# EAGLE library part 2XTRIODE (library Tubes111)
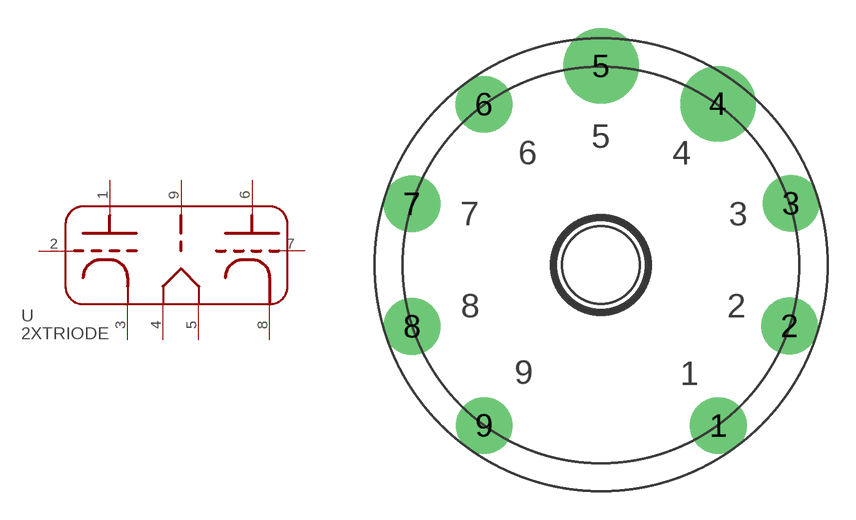
[diagram p85: symbol with the pads of NOVAL1; footprint NOVAL1]

Designator prefix -

## 2XTRIODE  [NOVAL1]
1  P$1
2  P$2
3  P$3
4  P$4
5  P$5
6  P$6
7  P$7
8  P$8
9  P$9

## Footprint NOVAL1 (pad centres in mm)
drill 1.85 pad 3 round: 1 6.215,-8.523; 2 9.992,-3.238; 3 10.062,3.259; 6 -6.204,8.517; 7 -10.016,3.231; 8 -10.014,-3.261; 9 -6.195,-8.513
drill 1.85 pad 4 round: 4 6.206,8.547; 5 -0.004,10.544